# EAGLE library part LTC5562 (library components)
LF–7GHz Wideband Low Power Active Mixer Wideband Frequency Range to 7GHz Low Power: 2.7V to 3.6V, 40mA Supply Supply Current Adjustable Down to 15mA Up or Downconversion OIP3: +20dBm at 3.6GHz Out Conversion Gain: +1dB Low LO Drive: –4dBm to +2dBm LO Impedance Match Maintained During Shutdown Enable Control, 10μA Shutdown Current 2kV ESD (HBM and CDM) –40°C to 105°C Operation Small 2mm × 2mm 10-Lead QFN Package
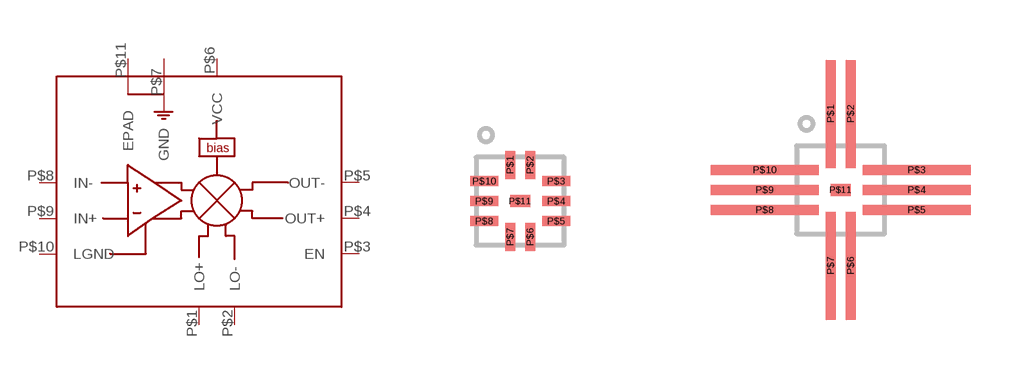
[diagram p5: symbol with the pads of QFN_10_2X2MM_05-08-1534; footprints QFN_10_2X2MM_05-08-1534, QFN_10_2X2MM_05-08-1534_LONG]

Designator prefix -

## LTC5562  [QFN_10_2X2MM_05-08-1534]
P$1  LO+
P$2  LO-
P$3  EN
P$4  OUT+
P$5  OUT-
P$6  VCC
P$7  GND
P$8  IN-
P$9  IN+
P$10  LGND
P$11  EPAD

## LTC5562LONG  [QFN_10_2X2MM_05-08-1534_LONG]
Pads as for QFN_10_2X2MM_05-08-1534

## Footprint QFN_10_2X2MM_05-08-1534 (pad centres in mm)
LF–7GHz Wideband Low Power Active Mixer Wideband Frequency Range to 7GHz Low Power: 2.7V to 3.6V, 40mA Supply Supply Current Adjustable Down to 15mA Up or Downconversion OIP3: +20dBm at 3.6GHz Out Conversion Gain: +1dB Low LO Drive: –4dBm to +2dBm LO Impedance Match Maintained During Shutdown Enable Control, 10μA Shutdown Current 2kV ESD (HBM and CDM) –40°C to 105°C Operation Small 2mm × 2mm 10-Lead QFN Package
smd 0.25 x 0.7: P$1 -0.25,0.9; P$2 0.25,0.9; P$6 0.25,-0.9; P$7 -0.25,-0.9
smd 0.7 x 0.25: P$3 0.9,0.5; P$4 0.9,0; P$5 0.9,-0.5; P$8 -0.9,-0.5; P$9 -0.9,0; P$10 -0.9,0.5
smd 0.5 x 0.3: P$11 0,0

## Footprint QFN_10_2X2MM_05-08-1534_LONG (pad centres in mm)
LF–7GHz Wideband Low Power Active Mixer Wideband Frequency Range to 7GHz Low Power: 2.7V to 3.6V, 40mA Supply Supply Current Adjustable Down to 15mA Up or Downconversion OIP3: +20dBm at 3.6GHz Out Conversion Gain: +1dB Low LO Drive: –4dBm to +2dBm LO Impedance Match Maintained During Shutdown Enable Control, 10μA Shutdown Current 2kV ESD (HBM and CDM) –40°C to 105°C Operation Small 2mm × 2mm 10-Lead QFN Package
smd 0.25 x 2.7: P$1 -0.25,1.9; P$2 0.25,1.9; P$6 0.25,-1.9; P$7 -0.25,-1.9
smd 2.7 x 0.25: P$3 1.9,0.5; P$4 1.9,0; P$5 1.9,-0.5; P$8 -1.9,-0.5; P$9 -1.9,0; P$10 -1.9,0.5
smd 0.5 x 0.3: P$11 0,0